# Altium schematic symbol library ABM3B-8.000MHZ-10-1-U-T.SchLib: 1 symbol
Pins are listed as number, name and electrical type; pins without a type are passive.

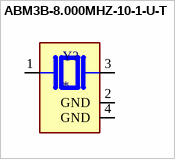
[diagram p0: symbol ABM3B-8.000MHZ-10-1-U-T]

## ABM3B-8.000MHZ-10-1-U-T
designator Y?
8 MHz Â±10ppm Crystal 10pF 200 Ohms 4-SMD, No Lead; MP: ABM3B-8.000MHZ-10-1-U-T; MF: Abracon; Value: *; Package: SMD-4 Abracon LLC; SnapEDA_Link: https://www.snapeda.com/parts/ABM3B-8.000MHZ-10-1-U-T/Abracon+LLC/view-part/?ref=snap; Purchase-URL: https://pricing.snapeda.com/search/part/ABM3B-8.000MHZ-10-1-U-T/?ref=eda; Availability: In Stock; Price: None; Check_prices: https://www.snapeda.com/parts/ABM3B-8.000MHZ-10-1-U-T/Abracon+LLC/view-part/?ref=eda
footprint XTAL_ABM3B-8.000MHZ-10-1-U-T
pins: 1, 2 GND (power), 3 2, 4 GND (power)